# EAGLE library part ADC080X (library TI)
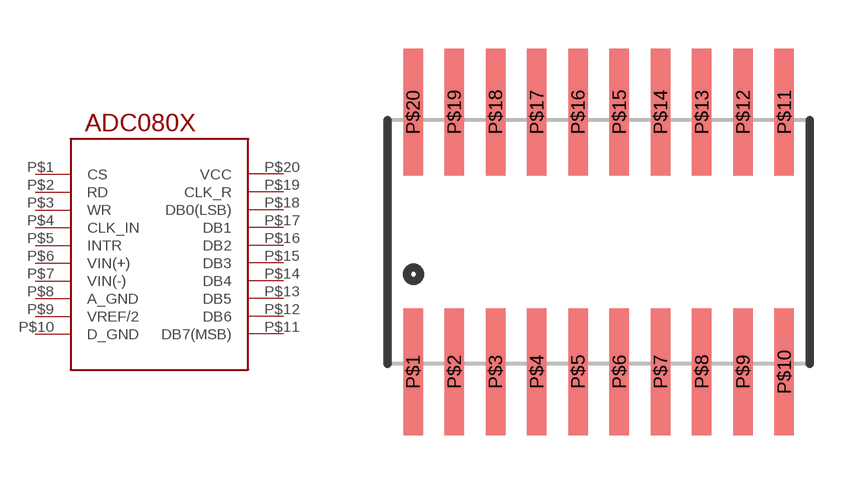
[diagram p2: symbol with the pads of SOIC-20_W; footprint SOIC-20_W]

Designator prefix -

## ADC080X  [SOIC-20_W]
P$1  CS
P$2  RD
P$3  WR
P$4  CLK_IN
P$5  INTR
P$6  VIN(+)
P$7  VIN(-)
P$8  A_GND
P$9  VREF/2
P$10  D_GND
P$11  DB7(MSB)
P$12  DB6
P$13  DB5
P$14  DB4
P$15  DB3
P$16  DB2
P$17  DB1
P$18  DB0(LSB)
P$19  CLK_R
P$20  VCC

## Footprint SOIC-20_W (pad centres in mm)
smd 0.6 x 3.9: P$1 -5.715,-4; P$2 -4.445,-4; P$3 -3.175,-4; P$4 -1.905,-4; P$5 -0.635,-4; P$6 0.635,-4; P$7 1.905,-4; P$8 3.175,-4; P$9 4.445,-4; P$10 5.715,-4; P$11 5.715,4; P$12 4.445,4; P$13 3.175,4; P$14 1.905,4; P$15 0.635,4; P$16 -0.635,4; P$17 -1.905,4; P$18 -3.175,4; P$19 -4.445,4; P$20 -5.715,4